# EAGLE library part MOLEX_49619-1611 (library isystems)
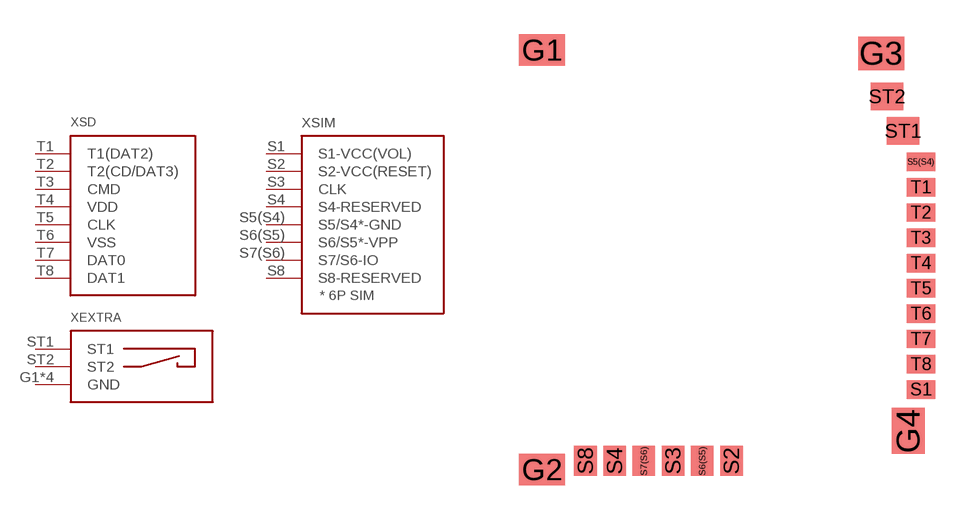
[diagram p4: symbol with the pads of MOLEX_49619-1611; footprint MOLEX_49619-1611]

Designator prefix X; gates SD=MICROSD SIM=SIM_8P EXTRA=MOLEX_49619-1611

## MOLEX_49619-1611  [MOLEX_49619-1611]
G1  EXTRA:GND  pwr
G2  EXTRA:GND  pwr
G3  EXTRA:GND  pwr
G4  EXTRA:GND  pwr
S1  SIM:S1-VCC(VOL)  pwr
S2  SIM:S2-VCC(RESET)  in
S3  SIM:CLK  in
S4  SIM:S4-RESERVED
S5(S4)  SIM:S5/S4*-GND  pwr
S6(S5)  SIM:S6/S5*-VPP  pwr
S7(S6)  SIM:S7/S6-IO
S8  SIM:S8-RESERVED
ST1  EXTRA:ST1
ST2  EXTRA:ST2
T1  SD:T1(DAT2)
T2  SD:T2(CD/DAT3)
T3  SD:CMD
T4  SD:VDD  pwr
T5  SD:CLK  in
T6  SD:VSS  pwr
T7  SD:DAT0
T8  SD:DAT1

## Footprint MOLEX_49619-1611 (pad centres in mm)
smd 2 x 1.35: G1 1,18.935; G2 1,0.675
smd 2 x 1.45: G3 15.75,18.785
smd 1.45 x 2: G4 16.925,2.35
smd 1.25 x 0.8: S1 17.475,4.16; S5(S4) 17.475,14.06; T1 17.475,12.96; T2 17.475,11.86; T3 17.475,10.76; T4 17.475,9.66; T5 17.475,8.56; T6 17.475,7.46; T7 17.475,6.36; T8 17.475,5.26
smd 0.98 x 1.3: S2 9.23,1.05; S3 6.69,1.05; S4 4.15,1.05; S6(S5) 7.96,1.05; S7(S6) 5.42,1.05; S8 2.88,1.05
smd 1.4 x 1.2: ST1 16.7,15.41; ST2 16,16.91